# EAGLE library part IC74HC147 (library chuong)
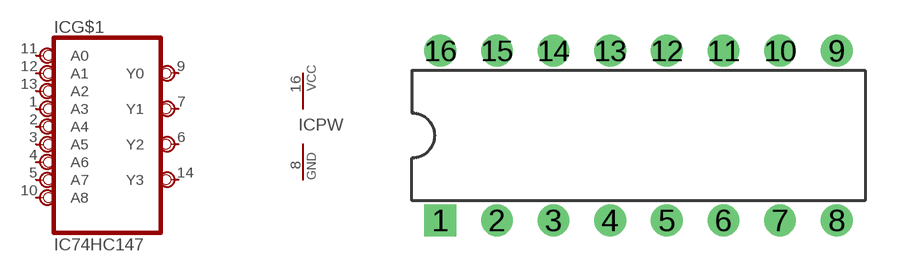
[diagram p83: symbol with the pads of DIL-16; footprint DIL-16]

Designator prefix IC; gates G$1=IC74HC147 PW=POWER

## IC74HC147  [DIL-16]
1  G$1:A3  in
2  G$1:A4  in
3  G$1:A5  in
4  G$1:A6  in
5  G$1:A7  in
6  G$1:Y2  in
7  G$1:Y1  in
8  PW:GND  pwr
9  G$1:Y0  in
10  G$1:A8  in
11  G$1:A0  in
12  G$1:A1  in
13  G$1:A2  in
14  G$1:Y3  in
16  PW:VCC  pwr

## Footprint DIL-16 (pad centres in mm)
drill 0.61 pad 1.422 square: 1 -8.89,-3.81
drill 0.61 pad 1.422 round: 2 -6.35,-3.81; 3 -3.81,-3.81; 4 -1.27,-3.81; 5 1.27,-3.81; 6 3.81,-3.81; 7 6.35,-3.81; 8 8.89,-3.81; 9 8.89,3.81; 10 6.35,3.81; 11 3.81,3.81; 12 1.27,3.81; 13 -1.27,3.81; 14 -3.81,3.81; 15 -6.35,3.81; 16 -8.89,3.81